# EAGLE library part 113990105 (library 113990105)
NodeMCU DEVKIT V1.0 Source: Datasheet <https://www.seeedstudio.com/NodeMCU-v2-Lua-based-ESP8266-development-kit.html>
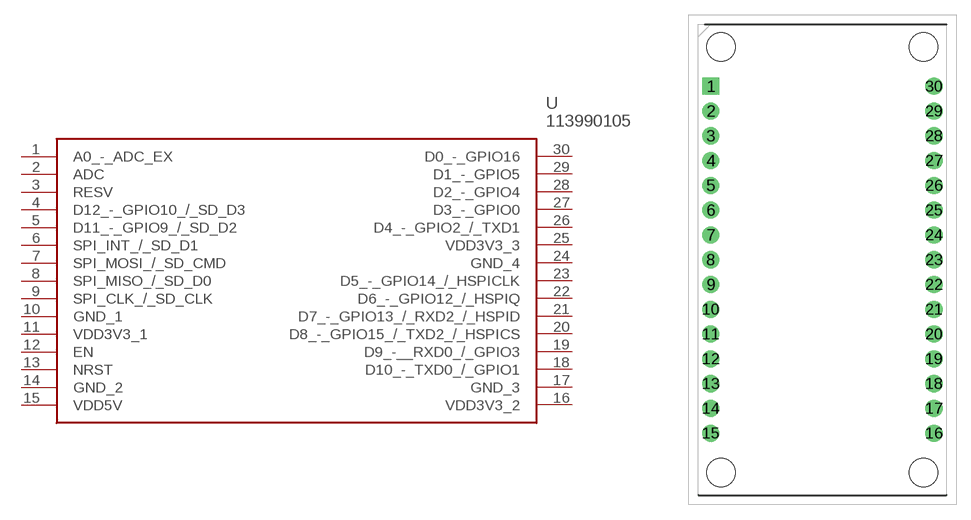
[diagram p0: symbol with the pads of 113990105; footprint 113990105]

Designator prefix U

## 113990105 (Arrow_Part_Number: 113990105; Arrow_Price-Stock: https://www.arrow.com/en/products/113990105/seeed-technology-limited?region=nac; Description: NodeMCU DEVKIT V1.0; Height: 7.35mm; Manufacturer_Name: Seeed Studio; Manufacturer_Part_Number: 113990105; Mouser_Part_Number: 713-113990105; Mouser_Price-Stock: https://www.mouser.co.uk/ProductDetail/Seeed-Studio/113990105?qs=SElPoaY2y5KMx8k1roAIKw%3D%3D)  [113990105]
1  A0_-_ADC_EX
2  ADC
3  RESV
4  D12_-_GPIO10_/_SD_D3
5  D11_-_GPIO9_/_SD_D2
6  SPI_INT_/_SD_D1
7  SPI_MOSI_/_SD_CMD
8  SPI_MISO_/_SD_D0
9  SPI_CLK_/_SD_CLK
10  GND_1  pwr
11  VDD3V3_1  pwr
12  EN  in
13  NRST  in
14  GND_2  pwr
15  VDD5V  pwr
16  VDD3V3_2  pwr
17  GND_3  pwr
18  D10_-_TXD0_/_GPIO1
19  D9_-__RXD0_/_GPIO3
20  D8_-_GPIO15_/_TXD2_/_HSPICS
21  D7_-_GPIO13_/_RXD2_/_HSPID
22  D6_-_GPIO12_/_HSPIQ
23  D5_-_GPIO14_/_HSPICLK
24  GND_4  pwr
25  VDD3V3_3  pwr
26  D4_-_GPIO2_/_TXD1
27  D3_-_GPIO0
28  D2_-_GPIO4
29  D1_-_GPIO5
30  D0_-_GPIO16

## Footprint 113990105 (pad centres in mm)
NodeMCU V1.0
drill 0.889 pad 1.75 square: 1 0,0
drill 0.889 pad 1.75: 2 0,-2.54; 3 0,-5.08; 4 0,-7.62; 5 0,-10.16; 6 0,-12.7; 7 0,-15.24; 8 0,-17.78; 9 0,-20.32; 10 0,-22.86; 11 0,-25.4; 12 0,-27.94; 13 0,-30.48; 14 0,-33.02; 15 0,-35.56; 16 22.86,-35.56; 17 22.86,-33.02; 18 22.86,-30.48; 19 22.86,-27.94; 20 22.86,-25.4; 21 22.86,-22.86; 22 22.86,-20.32; 23 22.86,-17.78; 24 22.86,-15.24; 25 22.86,-12.7; 26 22.86,-10.16; 27 22.86,-7.62; 28 22.86,-5.08; 29 22.86,-2.54; 30 22.86,0
hole 2.92 at 1.02,4.06
hole 2.92 at 21.8,4.06
hole 2.92 at 1.06,-39.62
hole 2.92 at 21.8,-39.62